# Altium schematic symbol library fuse.SCHLIB: 48 symbols
Pins are listed as number, name and electrical type; pins without a type are passive.

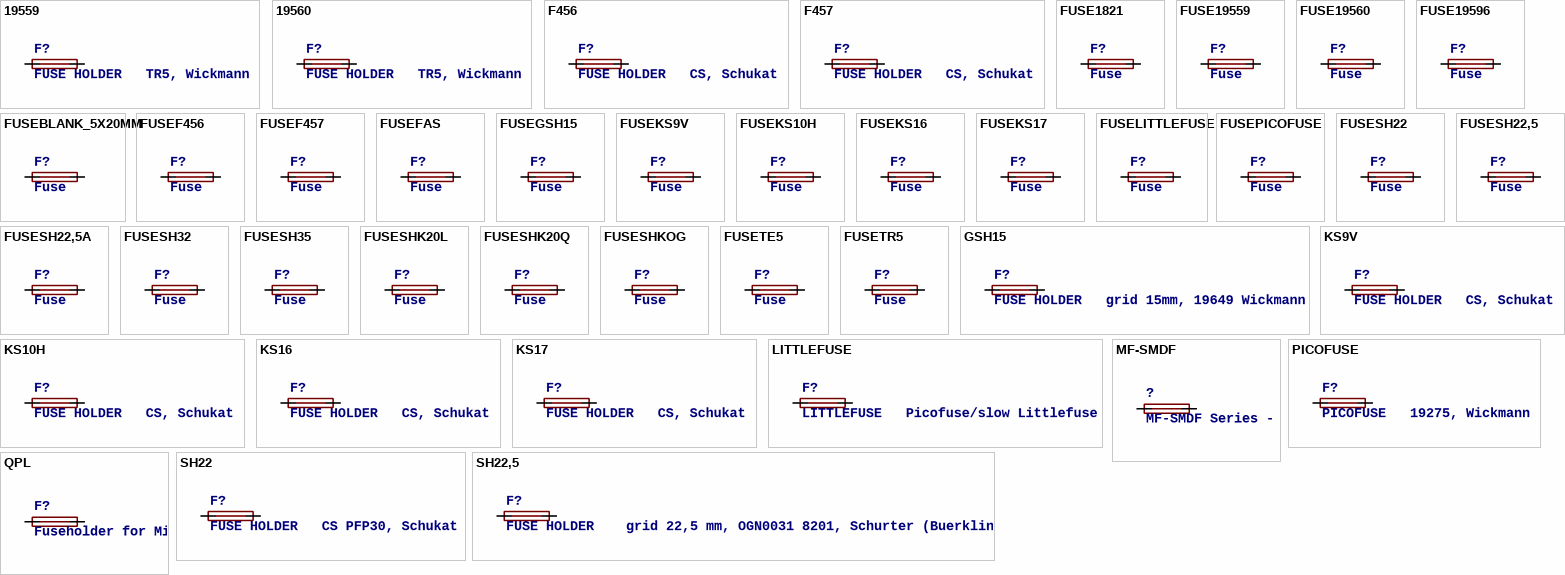
[diagram p0: symbols 19559 to SH22,5]

## 19559
designator F?, comment FUSE HOLDER   TR5, Wickmann
MPN: 55900000001; OC_FARNELL: 9516360; OC_NEWARK: 02P0286
footprint 19559
pins: 1, 2

## 19560
designator F?, comment FUSE HOLDER   TR5, Wickmann
MPN: 56000001009; OC_FARNELL: 1185363; OC_NEWARK: 15P8392
footprint 19560
pins: 1, 2

## F456
designator F?, comment FUSE HOLDER   CS, Schukat
OC_FARNELL: unknown; OC_NEWARK: unknown
footprint F456
pins: 1, 2

## F457
designator F?, comment FUSE HOLDER   CS, Schukat
OC_FARNELL: unknown; OC_NEWARK: unknown
footprint F457
pins: 1, 2

## FUSE1821
designator F?, comment Fuse
OC_FARNELL: unknown; OC_NEWARK: unknown
footprint FUSE_HOLDER_MENTOR-1821
pins: A 1, B 2

## FUSE19559
designator F?, comment Fuse
MPN: 55900000001; OC_FARNELL: 9516360; OC_NEWARK: 02P0286
footprint 19559
pins: 1, 2

## FUSE19560
designator F?, comment Fuse
MPN: 56000001009; OC_FARNELL: 1185363; OC_NEWARK: 98K6125
footprint 19560
pins: 1, 2

## FUSE19596
designator F?, comment Fuse
OC_FARNELL: 1271669; OC_NEWARK: unknown
footprint FUSE_HOLDER_WICKMANN-19596
pins: A 1, B 2

## FUSEBLANK_5X20MM
designator F?, comment Fuse
OC_FARNELL: unknown; OC_NEWARK: unknown
footprint FUSE_HOLDER_5X20MM
pins: 1, 2

## FUSEF456
designator F?, comment Fuse
OC_FARNELL: unknown; OC_NEWARK: unknown
footprint F456
pins: 1, 2

## FUSEF457
designator F?, comment Fuse
OC_FARNELL: unknown; OC_NEWARK: unknown
footprint F457
pins: 1, 2

## FUSEFAS
designator F?, comment Fuse
MPN: 0031.3501; OC_FARNELL: 1214778; OC_NEWARK: 98K4273
footprint FUSE_HOLDER_SCHURTER-FAS
pins: A 1, B 2

## FUSEGSH15
designator F?, comment Fuse
OC_FARNELL: unknown; OC_NEWARK: unknown
footprint GSH15
pins: 1, 2

## FUSEKS9V
designator F?, comment Fuse
OC_FARNELL: unknown; OC_NEWARK: unknown
footprint KS9V
pins: 1, 2

## FUSEKS10H
designator F?, comment Fuse
OC_FARNELL: unknown; OC_NEWARK: unknown
footprint KS10H
pins: 1, 2

## FUSEKS16
designator F?, comment Fuse
OC_FARNELL: unknown; OC_NEWARK: unknown
footprint KS16
pins: 1, 2

## FUSEKS17
designator F?, comment Fuse
OC_FARNELL: unknown; OC_NEWARK: unknown
footprint KS17
pins: 1, 2

## FUSELITTLEFUSE
designator F?, comment Fuse
OC_FARNELL: unknown; OC_NEWARK: unknown
footprint LITTLEFUSE
pins: 1, 2

## FUSEPICOFUSE
designator F?, comment Fuse
OC_FARNELL: unknown; OC_NEWARK: unknown
footprint PICOFUSE
pins: 1, 2

## FUSESH22
designator F?, comment Fuse
OC_FARNELL: unknown; OC_NEWARK: unknown
footprint SH22
pins: 1, 2

## FUSESH22,5
designator F?, comment Fuse
OC_FARNELL: unknown; OC_NEWARK: unknown
footprint SH22,5
pins: 1, 2

## FUSESH22,5A
designator F?, comment Fuse
OC_FARNELL: unknown; OC_NEWARK: unknown
footprint SH22,5A
pins: 1, 2

## FUSESH32
designator F?, comment Fuse
OC_FARNELL: unknown; OC_NEWARK: unknown
footprint SH32
pins: 1A 1, 2A 2

## FUSESH35
designator F?, comment Fuse
OC_FARNELL: unknown; OC_NEWARK: unknown
footprint SH25
pins: 1, 2

## FUSESHK20L
designator F?, comment Fuse
OC_FARNELL: unknown; OC_NEWARK: unknown
footprint SHK20L
pins: 1A 1, 2A 2

## FUSESHK20Q
designator F?, comment Fuse
OC_FARNELL: unknown; OC_NEWARK: unknown
footprint SHK20Q
pins: 1A 1, 2A 2

## FUSESHKOG
designator F?, comment Fuse
OC_FARNELL: unknown; OC_NEWARK: unknown
footprint SHKOG
pins: 1A 1, 2A 2

## FUSETE5
designator F?, comment Fuse
OC_FARNELL: unknown; OC_NEWARK: unknown
footprint TE5
pins: 1, 2

## FUSETR5
designator F?, comment Fuse
OC_FARNELL: unknown; OC_NEWARK: unknown
footprint TR5
pins: 1, 2

## GSH15
designator F?, comment FUSE HOLDER   grid 15mm, 19649 Wickmann
MPN: 64900001039; OC_FARNELL: 1271673; OC_NEWARK: 02P0318
footprint GSH15
pins: 1, 2

## KS9V
designator F?, comment FUSE HOLDER   CS, Schukat
OC_FARNELL: unknown; OC_NEWARK: unknown
footprint KS9V
pins: 1, 2

## KS10H
designator F?, comment FUSE HOLDER   CS, Schukat
OC_FARNELL: unknown; OC_NEWARK: unknown
footprint KS10H
pins: 1, 2

## KS16
designator F?, comment FUSE HOLDER   CS, Schukat
OC_FARNELL: unknown; OC_NEWARK: unknown
footprint KS16
pins: 1, 2

## KS17
designator F?, comment FUSE HOLDER   CS, Schukat
OC_FARNELL: unknown; OC_NEWARK: unknown
footprint KS17
pins: 1, 2

## LITTLEFUSE
designator F?, comment LITTLEFUSE   Picofuse/slow Littlefuse
OC_FARNELL: unknown; OC_NEWARK: unknown
footprint LITTLEFUSE
pins: 1, 2

## MF-SMDF
designator ?, comment MF-SMDF Series - PRC Resettable Fuses   Source: http://www.farnell.com/datasheets/716597.pdf
footprint MF-SMDF050
pins: 1, 2

## PICOFUSE
designator F?, comment PICOFUSE   19275, Wickmann
OC_FARNELL: unknown; OC_NEWARK: unknown
footprint PICOFUSE
pins: 1, 2

## QPL
designator F?, comment Fuseholder for Micro(TM) Fuse or Pico(R) II Fuses   281 005, 281 008 Source:www.littlefuse.com .. 281005A.PDF
OC_FARNELL: 1608231; OC_NEWARK: unknown
footprint QPL
pins: 1, 2

## SH22
designator F?, comment FUSE HOLDER   CS PFP30, Schukat
OC_FARNELL: unknown; OC_NEWARK: unknown
footprint SH22
pins: 1, 2

## SH22,5
designator F?, comment FUSE HOLDER    grid 22,5 mm, OGN0031 8201, Schurter (Buerklin)
MPN: 0031.8201; MF: SCHURTER; OC_FARNELL: 1162740; OC_NEWARK: 96F8317
footprint SH22,5
pins: 1, 2

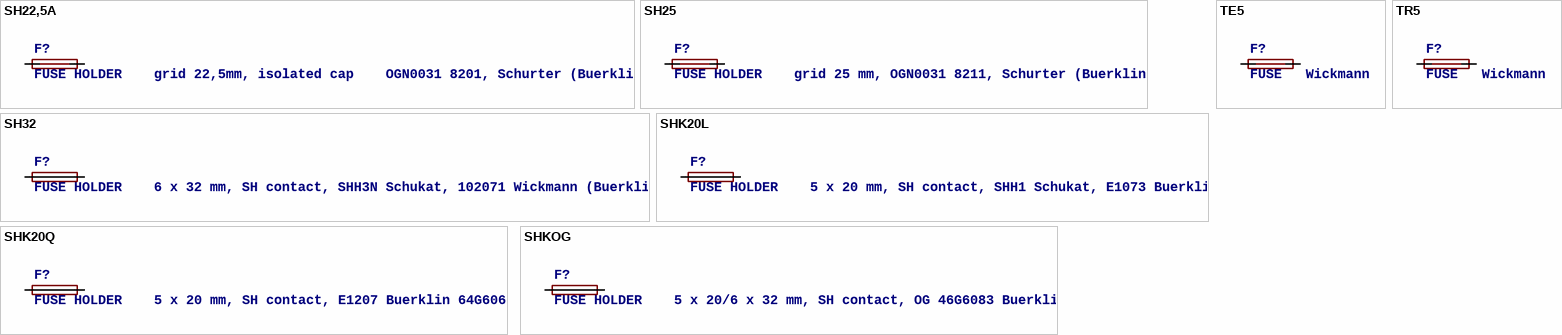
[diagram p1: symbols SH22,5A to TR5]

## SH22,5A
designator F?, comment FUSE HOLDER    grid 22,5mm, isolated cap    OGN0031 8201, Schurter (Buerklin)
MPN: 0031.7701.11; OC_FARNELL: unknown; OC_NEWARK: 04F1224
footprint SH22,5A
pins: 1, 2

## SH25
designator F?, comment FUSE HOLDER    grid 25 mm, OGN0031 8211, Schurter (Buerklin)
MPN: 0031.8211; MF: SCHURTER; OC_FARNELL: 1162741; OC_NEWARK: 96B9380
footprint SH25
pins: 1, 2

## SH32
designator F?, comment FUSE HOLDER    6 x 32 mm, SH contact, SHH3N Schukat, 102071 Wickmann (Buerklin)
MPN: 10207101009; OC_FARNELL: 811786; OC_NEWARK: 76R6904
footprint SH32
pins: 1A, 1B, 2A, 2B

## SHK20L
designator F?, comment FUSE HOLDER    5 x 20 mm, SH contact, SHH1 Schukat, E1073 Buerklin
OC_FARNELL: unknown; OC_NEWARK: unknown
footprint SHK20L
pins: 1A, 1B, 2A, 2B

## SHK20Q
designator F?, comment FUSE HOLDER    5 x 20 mm, SH contact, E1207 Buerklin 64G6061
OC_FARNELL: unknown; OC_NEWARK: unknown
footprint SHK20Q
pins: 1A, 1B, 2A, 2B

## SHKOG
designator F?, comment FUSE HOLDER    5 x 20/6 x 32 mm, SH contact, OG 46G6083 Buerklin
OC_FARNELL: unknown; OC_NEWARK: unknown
footprint SHKOG
pins: 1A, 1B, 2A, 2B

## TE5
designator F?, comment FUSE   Wickmann
OC_FARNELL: unknown; OC_NEWARK: unknown
footprint TE5
pins: 1, 2

## TR5
designator F?, comment FUSE   Wickmann
OC_FARNELL: unknown; OC_NEWARK: unknown
footprint TR5
pins: 1, 2